# Altium footprint library 2301994_4.PcbLib: 1 footprints
Each footprint in its own frame and in the unit in brackets; x right, y up, seen from the top. Pads: shape width x height; smd on the part's side, far side on the other; paste and mask are expansions set on the pad; w line width, h text height; cw(c..) or ccw(c..) is an arc to the next point about the centre after c.
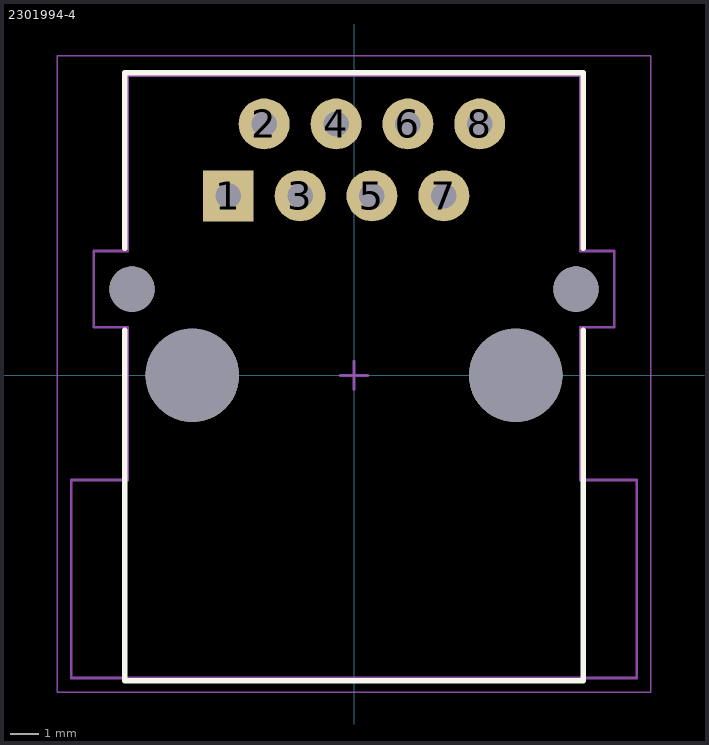
[diagram p0: the footprint, top view; thin cyan lines are the x and y axes]

## 2301994-4 [mm]
height 13.5
pads (12):
  rect 1.8x1.8 hole 0.9 unplated: 1(-4.445,6.35)
  round 1.8 hole 0.9 unplated: 2(-3.175,8.89) 3(-1.905,6.35) 4(-0.635,8.89) 5(0.635,6.35) 6(1.905,8.89) 7(3.175,6.35) 8(4.445,8.89)
  round 1.6 hole 1.6 unplated: ""(-7.85,3.05) ""(7.85,3.05)
  round 3.3 hole 3.3 unplated: ""(-5.715,0) ""(5.715,0)
Top Overlay:
  lines w0.2: -8.1,1.6 -8.1,-10.8 8.1,-10.8 8.1,1.6 ; -8.1,4.5 -8.1,10.7 8.1,10.7 8.1,4.5
Top Comment:
  text ".Comment" at 1,11.5 h1.2
Top Designator:
  text ".Designator" at -0.5,11.5 h1.2
Top Component Outline:
  lines w0.1: -10,-10.7 -10,-3.7 -8,-3.7 -8,-2.8 -8,1.7 -9.2,1.7 -9.2,4.4 -8,4.4 -8,10.6 8,10.6 8,4.4 9.2,4.4 9.2,1.7 8,1.7 8,-3.7 10,-3.7 10,-10.7 -10,-10.7
Top Courtyard (Mech15):
  lines w0.05: -10.5,-11.2 10.5,-11.2 10.5,11.3 -10.5,11.3 -10.5,-11.2
  lines w0.1: -0.5,0 0.5,0 ; 0,-0.5 0,0.5
3D body "2301994-4.STEP": height 15.8, standoff -3.5, extent -10,-10.745 10,10.605